# Altium footprint library PCB2.PcbLib: 22 footprints (part 1 of 2)
Each footprint in its own frame and in the unit in brackets; x right, y up, seen from the top. Pads: shape width x height; smd on the part's side, far side on the other; paste and mask are expansions set on the pad; w line width, h text height; cw(c..) or ccw(c..) is an arc to the next point about the centre after c.
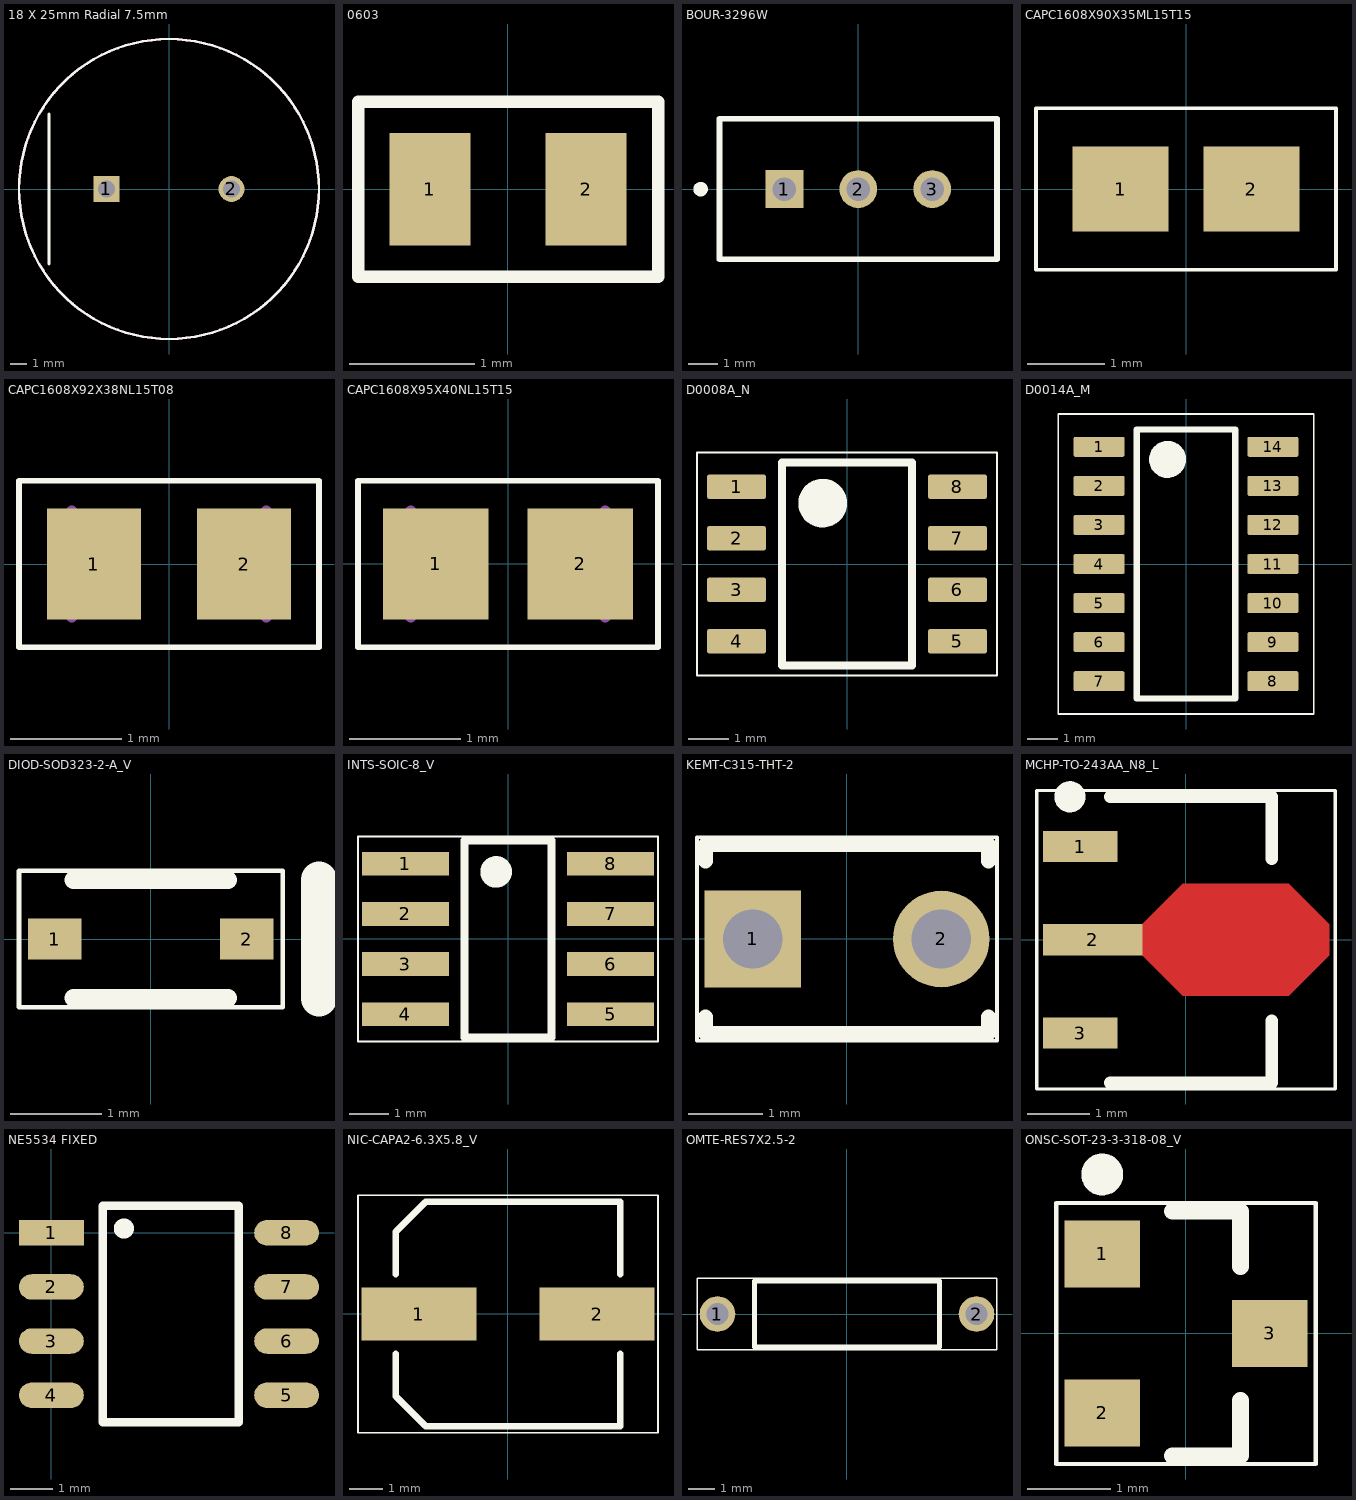
[diagram p0: the footprints below, top view; thin cyan lines are the x and y axes]

## 18 X 25mm Radial 7.5mm [mm] "(18 X 25mm) Radial 7.5mm Cap Aluminum 2200uF 35V 20% 2740mA 5000h 105°C Ammo Pack"
height 25
pads (2):
  rect 1.55x1.55 hole 1 paste-1000 mask+0: 1(-3.75,0)
  round 1.55 hole 1 paste-1000 mask+0: 2(3.75,0)
Top Overlay:
  circle w0.15: c0,0 r9
  lines w0.2: -7.2,-4.5 -7.2,4.5
Mechanical 10:
  text ".Designator" at -2.413,-5.842 h1
Mechanical 12:
  circle w0.15: c0,0 r9

## 0603 [mm]
height 0.8
pads (2):
  rect 0.65x0.9 smd: 1(-0.625,0) 2(0.625,0)
Top Overlay:
  lines w0.1: -1.2,-0.7 1.2,-0.7 1.2,0.7 -1.2,0.7 -1.2,-0.7
3D body "C_0603.step": height 0.8, standoff 0, extent -0.8,-0.4 0.8,0.4

## BOUR-3296W [mm] "THD, 3-Leads, Body 9.53x4.83mm, Pitch 2.54mm"
height 11.904
pads (3):
  rect 1.3x1.3 hole 0.8: 1(-2.54,0)
  round 1.3 hole 0.8: 2(0,0) 3(2.54,0)
Top Overlay:
  circle w0.25: c-5.415,0 r0.125
  lines w0.2: 4.765,-2.41 -4.765,-2.41 -4.765,2.42 4.765,2.42 4.765,-2.405
Mechanical 13:
  lines w0.1: -4.765,-2.41 4.765,-2.41 4.765,2.42 -4.765,2.42 -4.765,-2.41
Mechanical 15:
  lines w0.1: -0.5,0 0.5,0 ; 0,-0.5 0,0.5
3D body "3296W.stp": height 11.55, standoff -6.4, extent -4.762,-2.405 4.763,2.421

## CAPC1608X90X35ML15T15 [mm] "Chip Capacitor, 2-Leads, Body 1.60x0.81mm, IPC Low Density"
height 0.9
pads (2):
  rect 1.25x1.1 smd: 1(-0.85,0) 2(0.85,0)
Top Overlay:
  lines w0.05: -1.95,-1.05 -1.95,1.05 1.95,1.05 1.95,-1.05 -1.95,-1.05
Mechanical 13:
  lines w0.1: -0.875,-0.48 -0.875,0.48 ; 0.875,-0.48 0.875,0.48
3D body: height 0.9, standoff 0, extent 0.525,-0.48 0.875,0.48
3D body: height 0.9, standoff 0, extent -0.875,-0.48 -0.525,0.48
3D body: height 0.9, standoff 0, extent -0.525,-0.48 0.525,0.48

## CAPC1608X92X38NL15T08 [mm] "Chip Capacitor, 2-Leads, Body 1.60x0.80mm, IPC Medium Density"
height 0.92
pads (2):
  rect 0.85x1 smd: 1(-0.675,0) 2(0.675,0)
Top Overlay:
  lines w0.05: -1.35,-0.75 1.35,-0.75 1.35,0.75 -1.35,0.75 -1.35,-0.75
Mechanical 13:
  lines w0.1: -0.875,-0.475 -0.875,0.475 ; 0.875,-0.475 0.875,0.475
3D body: height 0.92, standoff 0, extent -0.495,-0.475 0.495,0.475
3D body: height 0.92, standoff 0, extent -0.875,-0.475 -0.495,0.475
3D body: height 0.92, standoff 0, extent 0.495,-0.475 0.875,0.475

## CAPC1608X95X40NL15T15 [mm] "Chip Capacitor, 2-Leads, Body 1.60x0.80mm, IPC Medium Density"
height 0.95
pads (2):
  rect 0.95x1 smd: 1(-0.65,0) 2(0.65,0)
Top Overlay:
  lines w0.05: -1.35,-0.75 -1.35,0.75 1.35,0.75 1.35,-0.75 -1.35,-0.75
Mechanical 13:
  lines w0.1: -0.875,-0.475 -0.875,0.475 ; 0.875,-0.475 0.875,0.475
3D body: height 0.95, standoff 0, extent 0.475,-0.475 0.875,0.475
3D body: height 0.95, standoff 0, extent -0.875,-0.475 -0.475,0.475
3D body: height 0.95, standoff 0, extent -0.475,-0.475 0.475,0.475

## D0008A_N [mm] "SOIC, 8-Leads, Body 5x4mm, Pitch 1.27mm, IPC Medium Density"
height 1.75
pads (8):
  rrect17% 1.45x0.6 smd: 1(-2.725,1.905) 2(-2.725,0.635) 3(-2.725,-0.635) 4(-2.725,-1.905) 5(2.725,-1.905) 6(2.725,-0.635) 7(2.725,0.635) 8(2.725,1.905)
Top Overlay:
  circle w0.6: c-0.6,1.5 r0.3
  lines w0.05: -3.7,-2.75 -3.7,2.75 3.7,2.75 3.7,-2.75 -3.7,-2.75
  lines w0.2: -1.6,-2.5 -1.6,2.5 1.6,2.5 1.6,-2.5 -1.6,-2.5
Mechanical 1:
  text ".Designator" at -1.397,-0.254 h0.6
3D body "SOIC-8akaD0008AakaM08A.stp": height 1.63, standoff 0, extent -3,-2.45 3,2.45

## D0014A_M [mm] "SOIC, 14-Leads, Body 8.75x4mm, Pitch 1.27mm, IPC Low Density"
height 1.75
pads (14):
  rrect15% 1.65x0.65 smd: 1(-2.825,3.81) 2(-2.825,2.54) 3(-2.825,1.27) 4(-2.825,0) 5(-2.825,-1.27) 6(-2.825,-2.54) 7(-2.825,-3.81) 8(2.825,-3.81) 9(2.825,-2.54) 10(2.825,-1.27) 11(2.825,0) 12(2.825,1.27) 13(2.825,2.54) 14(2.825,3.81)
Top Overlay:
  circle w0.6: c-0.6,3.4 r0.3
  lines w0.05: -4.15,-4.875 4.15,-4.875 4.15,4.875 -4.15,4.875 -4.15,-4.875
  lines w0.2: -1.6,-4.375 1.6,-4.375 1.6,4.375 -1.6,4.375 -1.6,-4.375
Mechanical 1:
  text ".Designator" at -1.575,-0.325 h0.8
3D body "SOIC-14akaD0014AakaM14A.stp": height 1.59, standoff -0.01, extent -3.023,-4.318 3.022,4.318

## DIOD-SOD323-2-A_V [mm] "SOD-323, 2-Leads, Body 1.7x1.3mm"
height 1.2
pads (2):
  rect 0.59x0.45 smd: 1(-1.055,0) 2(1.055,0)
Top Overlay:
  lines w0.05: -1.45,-0.75 1.45,-0.75 1.45,0.75 -1.45,0.75 -1.45,-0.75
  lines w0.2: -0.85,-0.65 0.85,-0.65 ; -0.85,0.65 0.85,0.65
  lines w0.4: 1.85,-0.65 1.85,0.65
3D body: height 1.2, standoff 0, extent -0.85,-0.65 0.85,0.65

## INTS-SOIC-8_V [mm] "SOIC, 8-Leads, Body 5x4mm, Pitch 1.27mm"
height 1.75
pads (8):
  rect 2.2x0.6 smd: 1(-2.6,1.905) 2(-2.6,0.635) 3(-2.6,-0.635) 4(-2.6,-1.905) 5(2.6,-1.905) 6(2.6,-0.635) 7(2.6,0.635) 8(2.6,1.905)
Top Overlay:
  circle w0.4: c-0.3,1.7 r0.2
  lines w0.05: -3.8,-2.6 -3.8,2.6 3.8,2.6 3.8,-2.6 -3.8,-2.6
  lines w0.2: -1.1,-2.5 1.1,-2.5 1.1,2.5 -1.1,2.5 -1.1,-2.5
3D body "SOIC127P600X175-8L.step": height 1.75, standoff 0, extent -3,-2.5 3,2.5

## KEMT-C315-THT-2 [mm] "THD, 2-Leads, Body 3.81x2.54mm"
height 4.66
pads (2):
  rect 1.3x1.3 hole 0.8: 1(-1.27,0)
  round 1.3 hole 0.8: 2(1.27,0)
Top Overlay:
  lines w0.05: -2.02,-1.37 -2.02,1.37 2.02,1.37 2.02,-1.37 -2.02,-1.37
  lines w0.2: -1.905,-1.05 -1.905,-1.27 1.905,-1.27 1.905,-1.05 ; -1.905,1.05 -1.905,1.27 1.905,1.27 1.905,1.05
3D body: height 4.66, standoff 0, extent -1.905,-1.27 1.905,1.27
3D body: height 0, standoff -7, extent 1.016,-0.254 1.525,0.255
3D body: height 0, standoff -7, extent -1.524,-0.254 -1.015,0.255

## MCHP-TO-243AA_N8_L [mm] "SOT89, 3-Leads, Body 4.6x2.6mm, Pitch 1.5mm, Lead Span 4.1mm, IPC High Density"
height 1.6
pads (3):
  rect 1.2x0.5 smd: 1(-1.7,1.5) 3(-1.7,-1.5)
  rect 1.6x0.5 smd: 2(-1.5,0)
Top Layer:
  region: -0.7,0.25 -0.05,0.9 1.65,0.9 2.3,0.25 2.3,-0.25 1.65,-0.9 -0.05,-0.9 -0.7,-0.25
Top Overlay:
  circle w0.25: c-1.867,2.3 r0.125
  lines w0.05: -2.4,-2.4 -2.4,2.4 2.4,2.4 2.4,-2.4 -2.4,-2.4
  lines w0.2: -1.218,-2.3 1.382,-2.3 1.382,-1.3 ; -1.218,2.3 1.382,2.3 1.382,1.3
Mechanical 15:
  lines w0.1: -0.418,0 0.582,0 ; 0.083,-0.5 0.083,0.5
3D body: height 1.6, standoff 0, extent -1.218,-2.3 1.382,2.3

## NE5534 FIXED [mm]
pads (8):
  rect 1.52x0.6 smd: 1(0,0)
  oval 1.52x0.6 smd: 2(0,-1.27) 3(0,-2.54) 4(0,-3.81) 5(5.52,-3.81) 6(5.52,-2.54) 7(5.52,-1.27) 8(5.52,0)
Top Overlay:
  circle w0.254: c1.7,0.1 r0.108
  lines w0.2: 1.2,-4.445 4.4,-4.445 4.4,0.635 3.078,0.635 1.2,0.635 1.2,-4.445
3D body "User Library-so8-3.STEP": height 1.7, standoff 0, extent -0.3,-4.35 5.7,0.55

## NIC-CAPA2-6.3X5.8_V [mm] "Aluminum Electrolytic Capacitor, Diameter 6.3mm, Height 6.1mm, Pitch 5.4mm"
height 6.1
pads (2):
  rect 3.5x1.6 smd: 1(-2.7,0) 2(2.7,0)
Top Overlay:
  lines w0.05: -4.55,-3.6 4.55,-3.6 4.55,3.6 -4.55,3.6 -4.55,-3.6
  lines w0.2: -3.4,-1.2 -3.4,-2.4 -3.4,-2.5 -2.5,-3.4 3.4,-3.4 3.4,-1.2 ; -3.4,1.2 -3.4,2.4 -3.4,2.5 -2.5,3.4 3.4,3.4 3.4,1.2
3D body: height 6.1, standoff 0, extent -3.144,-3.125 3.144,3.15

## OMTE-RES7X2.5-2 [mm] "Resistor, Axial; Body 7x2.5mm, Lead Dia. 0.6mm"
height 2.5
pads (2):
  round 1.35 hole 0.85: 1(-4.9,0) 2(4.9,0)
Top Overlay:
  lines w0.05: -5.675,-1.35 5.675,-1.35 5.675,1.35 -5.675,1.35 -5.675,-1.35
  lines w0.2: -3.5,-1.25 3.5,-1.25 3.5,1.25 -3.5,1.25 -3.5,-1.25
3D body: height 2.5, standoff 0, extent -3.5,-1.25 3.5,1.24

## ONSC-SOT-23-3-318-08_V [mm] "SOT23, 3-Leads, Body 2.92x1.3mm, Pitch 0.95mm"
height 1.11
pads (3):
  rect 0.9x0.8 smd: 1(-1,0.95) 2(-1,-0.95) 3(1,0)
Top Overlay:
  circle w0.25: c-1,1.9 r0.125
  lines w0.05: -1.55,-1.56 -1.55,1.56 1.55,1.56 1.55,-1.56 -1.55,-1.56
  lines w0.2: -0.165,-1.46 0.65,-1.46 0.65,-0.8 ; -0.165,1.46 0.65,1.46 0.65,0.8
3D body: height 1.11, standoff 0.01, extent -0.65,-1.46 0.65,1.46